# Altium schematic symbol library RFSWITCH_CG.Schlib: 1 symbol
Pins are listed as number, name and electrical type; pins without a type are passive.

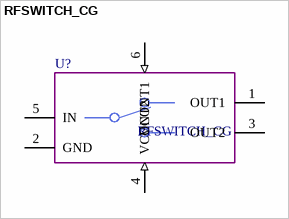
[diagram p0: symbol RFSWITCH_CG]

## RFSWITCH_CG
designator U?
pins: 1 OUT1, 2 GND (power), 3 OUT2, 4 VCONT2 (in), 5 IN, 6 VCONT1 (in)